# EAGLE library part TS19377 (library myLib)
2A Buck WLED Driver
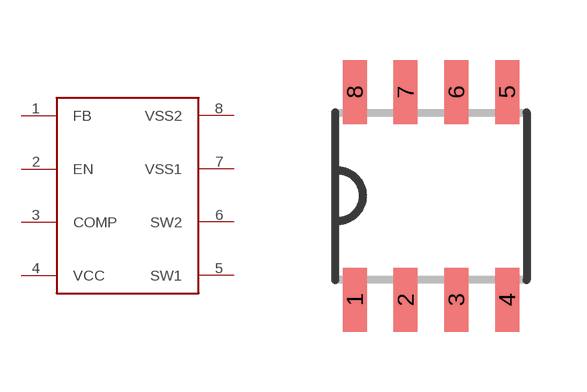
[diagram p2: symbol with the pads of SOP8; footprint SOP8]

Designator prefix -

## TS19377  [SOP8]
1  FB
2  EN
3  COMP
4  VCC
5  SW1
6  SW2
7  VSS1
8  VSS2

## Footprint SOP8 (pad centres in mm)
SOP8 Source: http://www.rohm.com/products/databook/motor/pdf/bd623x_series-e.pdf
smd 0.6 x 1.6: 1 -1.905,-2.6; 2 -0.635,-2.6; 3 0.635,-2.6; 4 1.905,-2.6; 5 1.905,2.6; 6 0.635,2.6; 7 -0.635,2.6; 8 -1.905,2.6